# Altium schematic symbol library Sheet_1.SCHLIB: 7 symbols
Pins are listed as number, name and electrical type; pins without a type are passive.

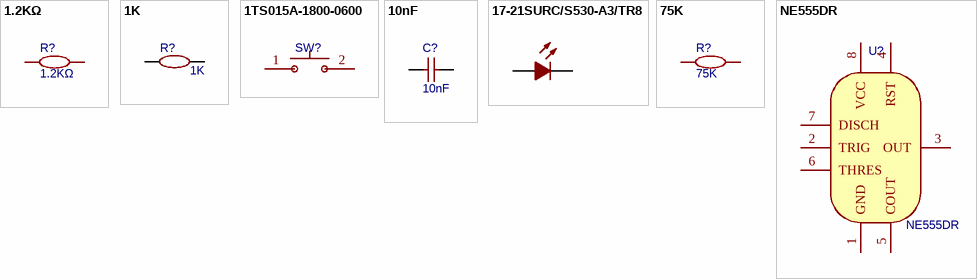
[diagram p0: symbols 1.2KΩ to NE555DR]

## 1.2KΩ
designator R?
BOM_Manufacturer: PANASONIC; BOM_Manufacturer Part: ERJ6RBD1201V; nameAlias: Resistance (Ohms); Contributor: LCSC; BOM_Supplier: LCSC; BOM_Supplier Part: C336858; spicePre: R; spiceSymbolName: ERJ6RBD1201V
footprint 0805
pins: 1, 2

## 1K
designator R?
BOM_Manufacturer: UniOhm; BOM_Manufacturer Part: 0805W8J0102T5E; nameAlias: Resistance (Ohms); BOM_Supplier: LCSC; BOM_Supplier Part: C25623; spicePre: R; spiceSymbolName: 0805W8J0102T5E
footprint 0805
pins: 1, 2

## 1TS015A-1800-0600
designator SW?  (value not drawn)
BOM_Manufacturer: HYP; Contributor: LCSC; BOM_Supplier: LCSC; BOM_Supplier Part: C256105; BOM_Manufacturer Part: 1TS015A-1800-0600; spicePre: S
footprint SW-SMD-3X2X0.6
pins: 1, 2

## 10nF
designator C?
BOM_Manufacturer Part: CL21B103KBANNNC; BOM_Manufacturer: SAMSUNG; nameAlias: Capacitance; SMT Type: Basic; BOM_Supplier: LCSC; BOM_LCSC Assembly: Yes; BOM_Supplier Part: C1710; spicePre: C; spiceSymbolName: CL21B103KBANNNC
footprint 0805
pins: 1, 2

## 17-21SURC/S530-A3/TR8
designator LED?  (value not drawn)
BOM_Manufacturer: EVERLIGHT; SMT Type: Extend; BOM_Supplier: LCSC; BOM_Manufacturer Part: 17-21SURC/S530-A3/TR8; image: //image.lceda.cn/szlcsc/C72037.jpg; BOM_Supplier Part: C72037; BOM_LCSC Assembly: Yes; spicePre: L
footprint LED-0805
pins: 1 A, 2 C

## 75K
designator R?
BOM_Manufacturer: PANASONIC; BOM_Manufacturer Part: ERJ6RBD7502V; nameAlias: Resistance (Ohms); Contributor: LCSC; BOM_Supplier: LCSC; BOM_Supplier Part: C336824; spicePre: R; spiceSymbolName: ERJ6RBD7502V
footprint 0805
pins: 1, 2

## NE555DR
designator U?
BOM_Manufacturer: TI; SMT Type: Basic; Contributor: erhuoyan; spicePre: X; BOM_Supplier: LCSC; BOM_Manufacturer Part: NE555DR; BOM_LCSC Assembly: Yes; image: //image.lceda.cn/szlcsc/C7593.jpg; BOM_Supplier Part: C7593
footprint SOIC-8_150MIL
pins: 1 GND, 2 TRIG, 3 OUT, 4 RST, 5 COUT, 6 THRES, 7 DISCH, 8 VCC